# Altium footprint library SFECV10M7CQ0C01R0.PcbLib: 1 footprints
Each footprint in its own frame and in the unit in brackets; x right, y up, seen from the top. Pads: shape width x height; smd on the part's side, far side on the other; paste and mask are expansions set on the pad; w line width, h text height; cw(c..) or ccw(c..) is an arc to the next point about the centre after c.
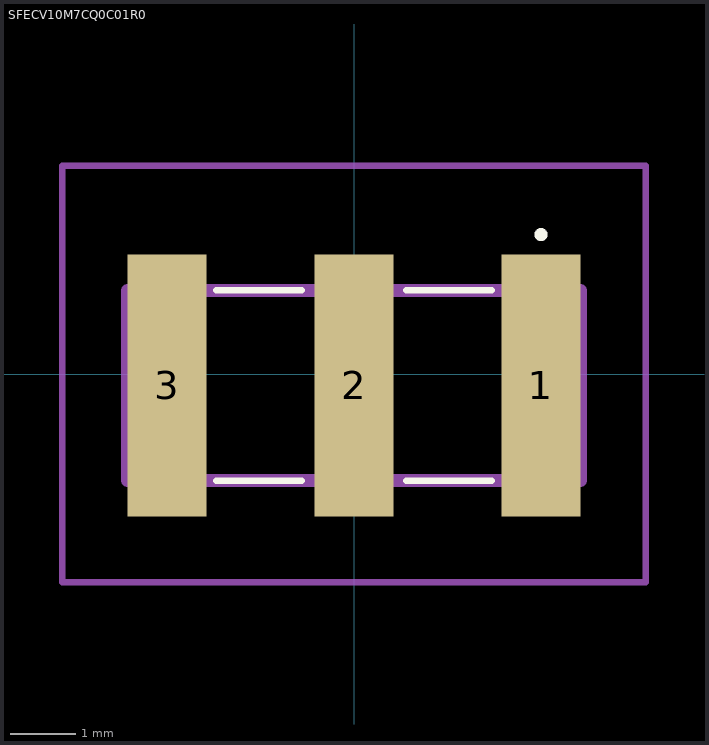
[diagram p0: the footprint, top view; thin cyan lines are the x and y axes]

## SFECV10M7CQ0C01R0 [mm]
pads (3):
  rect 1.2x4 smd: 1(2.85,-0.175) 2(0,-0.175) 3(-2.85,-0.175)
L26-Silk Screen Top (Multiple PADS layers...):
  lines w0.1: -2.1,-1.625 -0.8,-1.625 ; -2.1,1.275 -0.8,1.275 ; 0.8,-1.625 2.1,-1.625 ; 0.8,1.275 2.1,1.275 ; 2.8,2.125 ccw(c2.85,2.125) 2.9,2.125 ccw(c2.85,2.125) 2.8,2.125
L15 (Multiple PADS layers...):
  lines w0.2: -3.45,-1.625 -3.45,1.275 3.45,1.275 3.45,-1.625 -3.45,-1.625
L20:
  lines w0.1: -4.45,-3.175 -4.45,3.175 4.45,3.175 4.45,-3.175 -4.45,-3.175